# EAGLE library part ADXL335 (library iBionics)
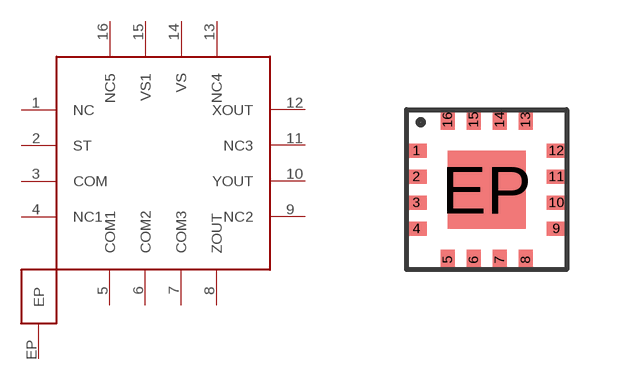
[diagram p2: symbol with the pads of QFN16; footprint QFN16]

Designator prefix -

## ADXL335  [QFN16]
1  NC
2  ST
3  COM
4  NC1
5  COM1
6  COM2
7  COM3
8  ZOUT
9  NC2
10  YOUT
11  NC3
12  XOUT
13  NC4
14  VS
15  VS1
16  NC5
EP  EP

## Footprint QFN16 (pad centres in mm)
smd 0.5 x 0.35: 1 -1.75,0.975; 2 -1.75,0.325; 3 -1.75,-0.325; 4 -1.75,-0.975; 9 1.75,-0.975; 10 1.75,-0.325; 11 1.75,0.325; 12 1.75,0.975
smd 0.35 x 0.5: 5 -0.975,-1.75; 6 -0.325,-1.75; 7 0.325,-1.75; 8 0.975,-1.75; 13 0.975,1.75; 14 0.325,1.75; 15 -0.325,1.75; 16 -0.975,1.75
smd 1.95 x 1.95: EP 0,0